# EAGLE library part TSA5130 (library gee_s)
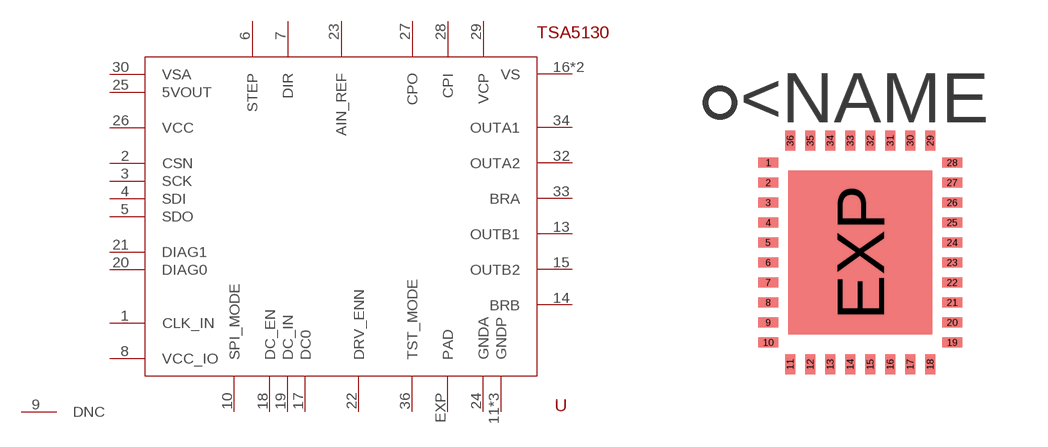
[diagram p41: symbol with the pads of QFN36_5X6; footprint QFN36_5X6]

Designator prefix -

## TSA5130  [QFN36_5X6]
1  CLK_IN
2  CSN
3  SCK
4  SDI
5  SDO
6  STEP
7  DIR
8  VCC_IO
9  DNC  nc
10  SPI_MODE
11  GNDP
12  GNDP
13  OUTB1
14  BRB
15  OUTB2
16  VS
17  DC0
18  DC_EN
19  DC_IN
20  DIAG0
21  DIAG1
22  DRV_ENN
23  AIN_REF
24  GNDA
25  5VOUT
26  VCC
27  CPO
28  CPI
29  VCP
30  VSA
31  VS
32  OUTA2
33  BRA
34  OUTA1
35  GNDP
36  TST_MODE
EXP  PAD

## Footprint QFN36_5X6 (pad centres in mm)
smd 0.5 x 0.25: 1 -2.3,2.25; 2 -2.3,1.75; 3 -2.3,1.25; 4 -2.3,0.75; 5 -2.3,0.25; 6 -2.3,-0.25; 7 -2.3,-0.75; 8 -2.3,-1.25; 9 -2.3,-1.75; 10 -2.3,-2.25; 19 2.3,-2.25; 20 2.3,-1.75; 21 2.3,-1.25; 22 2.3,-0.75; 23 2.3,-0.25; 24 2.3,0.25; 25 2.3,0.75; 26 2.3,1.25; 27 2.3,1.75; 28 2.3,2.25
smd 0.25 x 0.5: 11 -1.75,-2.8; 12 -1.25,-2.8; 13 -0.75,-2.8; 14 -0.25,-2.8; 15 0.25,-2.8; 16 0.75,-2.8; 17 1.25,-2.8; 18 1.75,-2.8; 29 1.75,2.8; 30 1.25,2.8; 31 0.75,2.8; 32 0.25,2.8; 33 -0.25,2.8; 34 -0.75,2.8; 35 -1.25,2.8; 36 -1.75,2.8
smd 3.6 x 4.1: EXP 0,0